# Altium schematic symbol library SCH - MCU - ATTINY - MICROCHIP ATTINY3217-MNR VQFN24.SchLib: 1 symbol
Pins are listed as number, name and electrical type; pins without a type are passive.

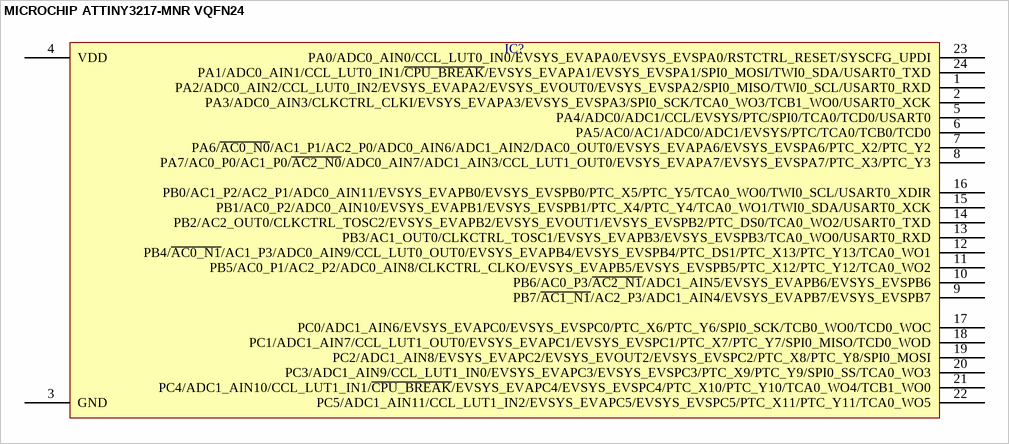
[diagram p0: symbol MICROCHIP ATTINY3217-MNR VQFN24]

## MICROCHIP ATTINY3217-MNR VQFN24
designator IC?  (value not drawn)
pins: 1 PA2/ADC0_AIN2/CCL_LUT0_IN2/EVSYS_EVAPA2/EVSYS_EVOUT0/EVSYS_EVSPA2/SPI0_MISO/TWI0_SCL/USART0_RXD, 2 PA3/ADC0_AIN3/CLKCTRL_CLKI/EVSYS_EVAPA3/EVSYS_EVSPA3/SPI0_SCK/TCA0_WO3/TCB1_WO0/USART0_XCK, 3 GND, 4 VDD, 5 PA4/ADC0/ADC1/CCL/EVSYS/PTC/SPI0/TCA0/TCD0/USART0, 6 PA5/AC0/AC1/ADC0/ADC1/EVSYS/PTC/TCA0/TCB0/TCD0, 7 PA6/~{AC0_N0}/AC1_P1/AC2_P0/ADC0_AIN6/ADC1_AIN2/DAC0_OUT0/EVSYS_EVAPA6/EVSYS_EVSPA6/PTC_X2/PTC_Y2, 8 PA7/AC0_P0/AC1_P0/~{AC2_N0}/ADC0_AIN7/ADC1_AIN3/CCL_LUT1_OUT0/EVSYS_EVAPA7/EVSYS_EVSPA7/PTC_X3/PTC_Y3, 9 PB7/~{AC1_N1}/AC2_P3/ADC1_AIN4/EVSYS_EVAPB7/EVSYS_EVSPB7, 10 PB6/AC0_P3/~{AC2_N1}/ADC1_AIN5/EVSYS_EVAPB6/EVSYS_EVSPB6, 11 PB5/AC0_P1/AC2_P2/ADC0_AIN8/CLKCTRL_CLKO/EVSYS_EVAPB5/EVSYS_EVSPB5/PTC_X12/PTC_Y12/TCA0_WO2, 12 PB4/~{AC0_N1}/AC1_P3/ADC0_AIN9/CCL_LUT0_OUT0/EVSYS_EVAPB4/EVSYS_EVSPB4/PTC_DS1/PTC_X13/PTC_Y13/TCA0_WO1, 13 PB3/AC1_OUT0/CLKCTRL_TOSC1/EVSYS_EVAPB3/EVSYS_EVSPB3/TCA0_WO0/USART0_RXD, 14 PB2/AC2_OUT0/CLKCTRL_TOSC2/EVSYS_EVAPB2/EVSYS_EVOUT1/EVSYS_EVSPB2/PTC_DS0/TCA0_WO2/USART0_TXD, 15 PB1/AC0_P2/ADC0_AIN10/EVSYS_EVAPB1/EVSYS_EVSPB1/PTC_X4/PTC_Y4/TCA0_WO1/TWI0_SDA/USART0_XCK, 16 PB0/AC1_P2/AC2_P1/ADC0_AIN11/EVSYS_EVAPB0/EVSYS_EVSPB0/PTC_X5/PTC_Y5/TCA0_WO0/TWI0_SCL/USART0_XDIR, 17 PC0/ADC1_AIN6/EVSYS_EVAPC0/EVSYS_EVSPC0/PTC_X6/PTC_Y6/SPI0_SCK/TCB0_WO0/TCD0_WOC, 18 PC1/ADC1_AIN7/CCL_LUT1_OUT0/EVSYS_EVAPC1/EVSYS_EVSPC1/PTC_X7/PTC_Y7/SPI0_MISO/TCD0_WOD, 19 PC2/ADC1_AIN8/EVSYS_EVAPC2/EVSYS_EVOUT2/EVSYS_EVSPC2/PTC_X8/PTC_Y8/SPI0_MOSI, 20 PC3/ADC1_AIN9/CCL_LUT1_IN0/EVSYS_EVAPC3/EVSYS_EVSPC3/PTC_X9/PTC_Y9/SPI0_SS/TCA0_WO3, 21 PC4/ADC1_AIN10/CCL_LUT1_IN1/~{CPU_BREAK}/EVSYS_EVAPC4/EVSYS_EVSPC4/PTC_X10/PTC_Y10/TCA0_WO4/TCB1_WO0, 22 PC5/ADC1_AIN11/CCL_LUT1_IN2/EVSYS_EVAPC5/EVSYS_EVSPC5/PTC_X11/PTC_Y11/TCA0_WO5, 23 PA0/ADC0_AIN0/CCL_LUT0_IN0/EVSYS_EVAPA0/EVSYS_EVSPA0/RSTCTRL_RESET/SYSCFG_UPDI, 24 PA1/ADC0_AIN1/CCL_LUT0_IN1/~{CPU_BREAK}/EVSYS_EVAPA1/EVSYS_EVSPA1/SPI0_MOSI/TWI0_SDA/USART0_TXD